# Altium footprint library PCB - POWER - TI-TPS2121RUXR.PCBLIB: 1 footprints
Each footprint in its own frame and in the unit in brackets; x right, y up, seen from the top. Pads: shape width x height; smd on the part's side, far side on the other; paste and mask are expansions set on the pad; w line width, h text height; cw(c..) or ccw(c..) is an arc to the next point about the centre after c.
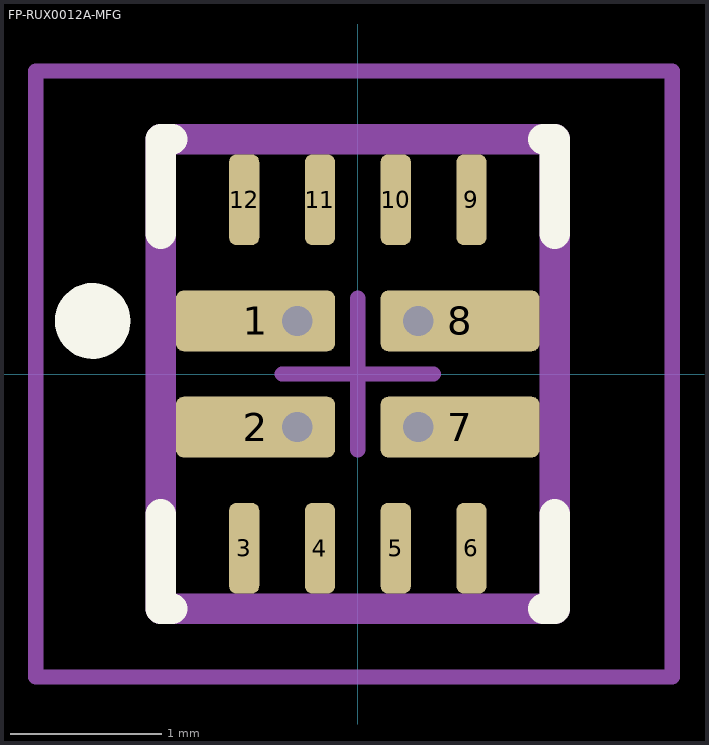
[diagram p0: the footprint, top view; thin cyan lines are the x and y axes]

## FP-RUX0012A-MFG [mm]
pads (12):
  rrect25% 1.05x0.4 smd paste+0 mask+0: 1(-0.675,0.35) 2(-0.675,-0.35) 7(0.675,-0.35) 8(0.675,0.35)
  rrect50% 0.2x0.6 smd paste+0 mask+0: 3(-0.75,-1.15) 4(-0.25,-1.15) 5(0.25,-1.15) 6(0.75,-1.15) 9(0.75,1.15) 10(0.25,1.15) 11(-0.25,1.15) 12(-0.75,1.15)
via 0.4,0.35 diameter 0.4 hole 0.2
via -0.4,0.35 diameter 0.4 hole 0.2
via -0.4,-0.35 diameter 0.4 hole 0.2
via 0.4,-0.35 diameter 0.4 hole 0.2
Top Overlay:
  circle w0.25: c-1.75,0.35 r0.125
  lines w0.2: -1.3,-0.925 -1.3,-1.55 -1.225,-1.55 ; -1.3,0.925 -1.3,1.55 -1.225,1.55 ; 1.225,-1.55 1.3,-1.55 1.3,-0.925 ; 1.225,1.55 1.3,1.55 1.3,0.925
Top Assembly:
  lines w0.2: -1.3,-1.55 1.3,-1.55 ; -1.3,-1.55 -1.3,1.55 ; -1.3,-1.55 1.3,-1.55 ; -1.3,-1.55 -1.3,1.55 ; -1.3,1.55 1.3,1.55 ; -1.3,1.55 1.3,1.55 ; 1.3,-1.55 1.3,1.55 ; 1.3,-1.55 1.3,1.55
Top Courtyard:
  lines w0.1: -2.125,-2 -2.125,2 2.075,2 2.075,-2 -2.125,-2
Top Designator:
  text ".Designator" at 0,0.188 h1
Top Component Center:
  lines w0.1: -0.5,0 0.5,0 ; 0,-0.5 0,0.5
Top Value (Mech13):
  text ".Value" at 0.025,-0.865 h1
3D body "IC_Texas_Instruments_TPS2121RUXR_eec.STEP": height 0.8, standoff 0, extent -1,-1.25 1,1.25